# EAGLE library part BQ24610 (library BQ24610)
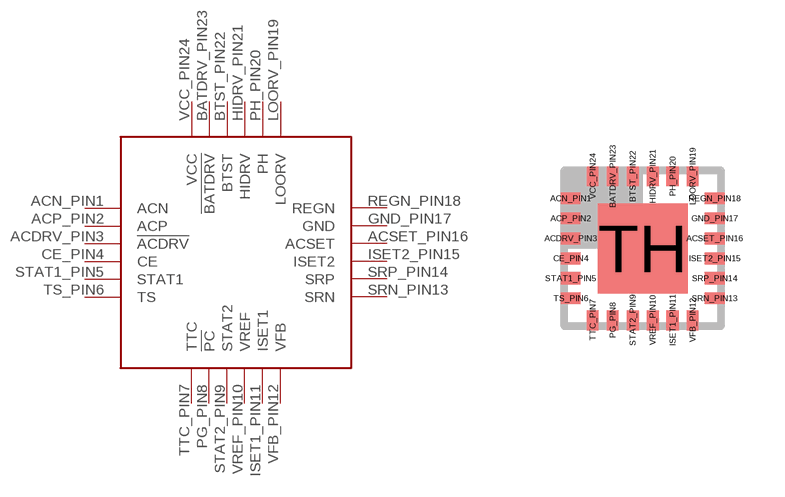
[diagram p0: symbol with the pads of HVQFN24; footprint HVQFN24]

Designator prefix -

## BQ24610  [HVQFN24]
ACDRV_PIN3  !ACDRV!
ACN_PIN1  ACN
ACP_PIN2  ACP
ACSET_PIN16  ACSET
BATDRV_PIN23  !BATDRV
BTST_PIN22  BTST
CE_PIN4  CE
GND_PIN17  GND
HIDRV_PIN21  HIDRV
ISET1_PIN11  ISET1
ISET2_PIN15  ISET2
LOORV_PIN19  LOORV
PG_PIN8  !PC
PH_PIN20  PH
REGN_PIN18  REGN
SRN_PIN13  SRN
SRP_PIN14  SRP
STAT1_PIN5  STAT1
STAT2_PIN9  STAT2
TS_PIN6  TS
TTC_PIN7  TTC
VCC_PIN24  VCC
VFB_PIN12  VFB
VREF_PIN10  VREF

## Footprint HVQFN24 (pad centres in mm)
plastic thermal enhanced very thin quad flat package SOT616-1 no leads; 24 terminals; body 4 x 4 x 0.85 mm Source: PCA9555_5.pdf
smd 0.5 x 0.3: ACDRV_PIN3 -1.8,0.25; ACN_PIN1 -1.8,1.25; ACP_PIN2 -1.8,0.75; ACSET_PIN16 1.8,0.25; CE_PIN4 -1.8,-0.25; GND_PIN17 1.8,0.75; ISET2_PIN15 1.8,-0.25; REGN_PIN18 1.8,1.25; SRN_PIN13 1.8,-1.25; SRP_PIN14 1.8,-0.75; STAT1_PIN5 -1.8,-0.75; TS_PIN6 -1.8,-1.25
smd 0.3 x 0.5: BATDRV_PIN23 -0.75,1.8; BTST_PIN22 -0.25,1.8; HIDRV_PIN21 0.25,1.8; ISET1_PIN11 0.75,-1.8; LOORV_PIN19 1.25,1.8; PG_PIN8 -0.75,-1.8; PH_PIN20 0.75,1.8; STAT2_PIN9 -0.25,-1.8; TTC_PIN7 -1.25,-1.8; VCC_PIN24 -1.25,1.8; VFB_PIN12 1.25,-1.8; VREF_PIN10 0.25,-1.8
smd 2.25 x 2.25: TH 0,0